# Altium footprint library PCB51.PcbLib: 22 footprints (part 1 of 2)
Each footprint in its own frame and in the unit in brackets; x right, y up, seen from the top. Pads: shape width x height; smd on the part's side, far side on the other; paste and mask are expansions set on the pad; w line width, h text height; cw(c..) or ccw(c..) is an arc to the next point about the centre after c.
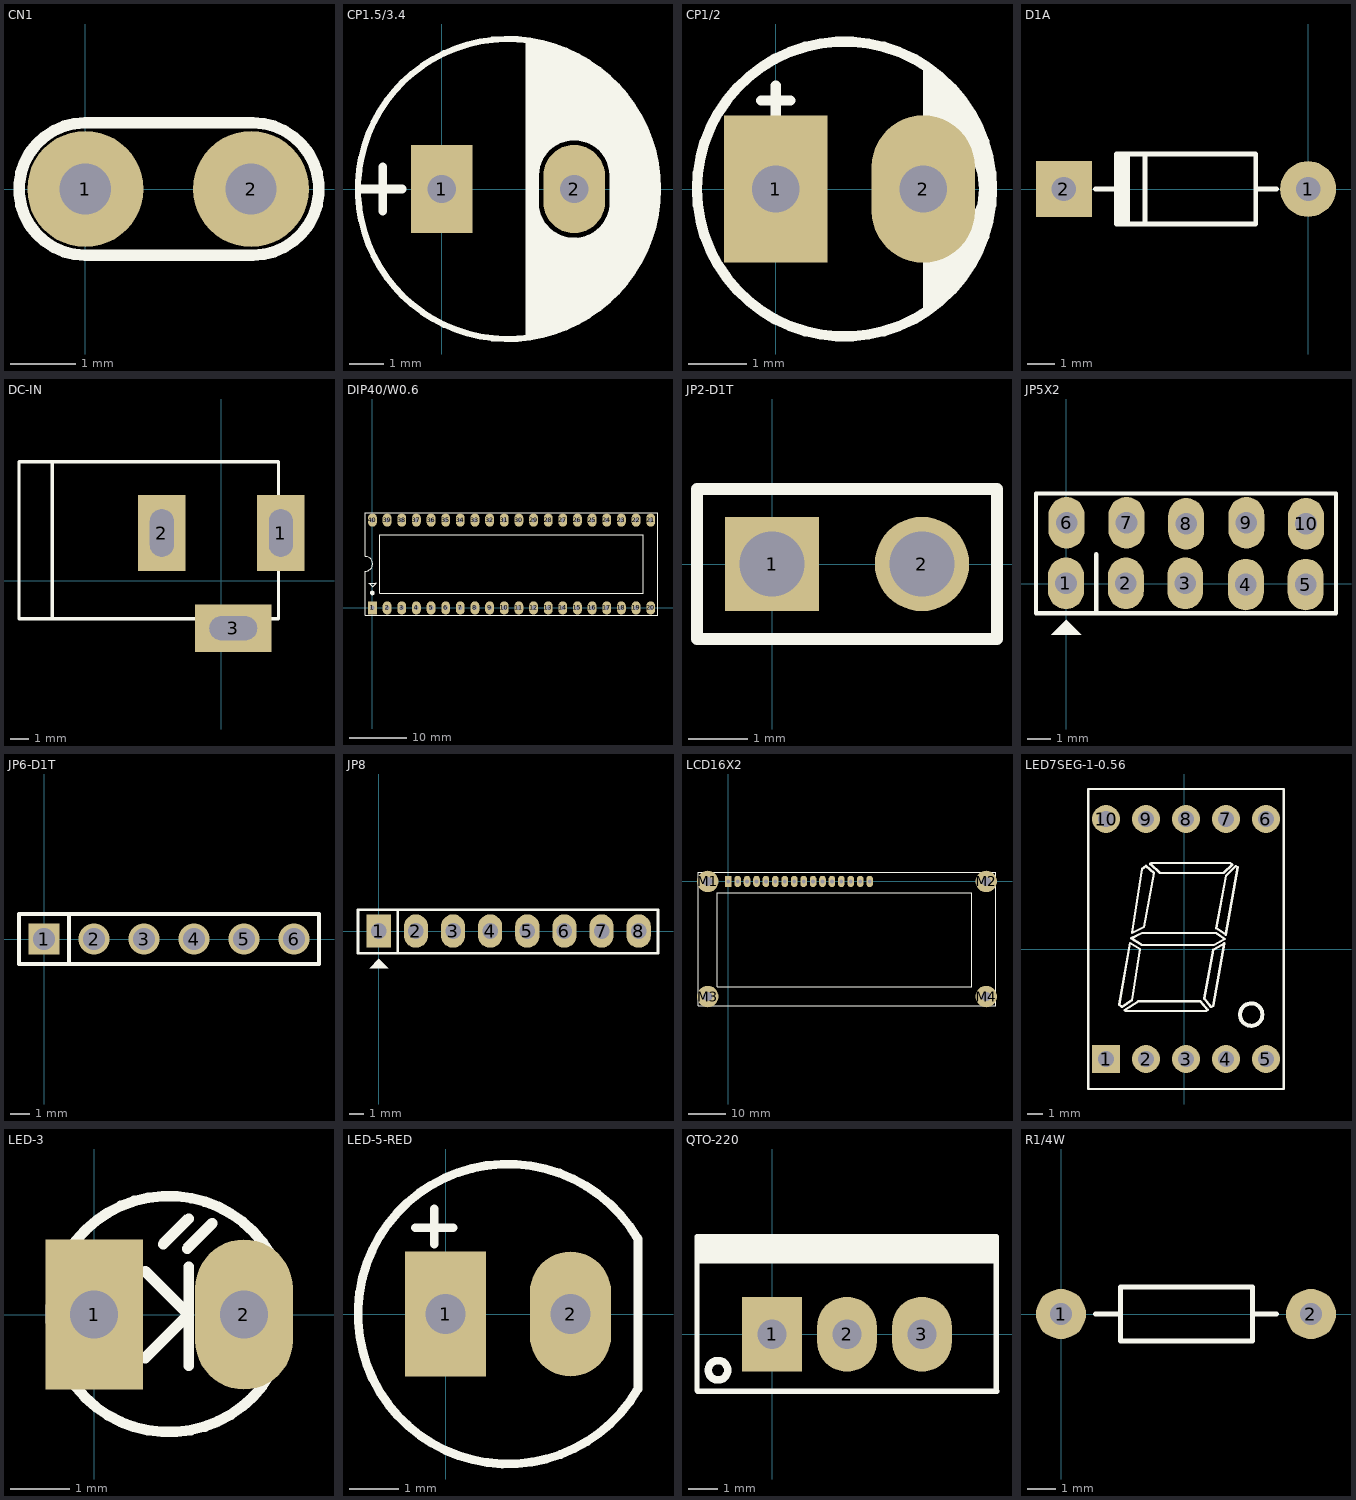
[diagram p0: the footprints below, top view; thin cyan lines are the x and y axes]

## CN1 [mil]
height 200
pads (2):
  round 70 hole 31: 1(0,0) 2(100,0)
Top Overlay:
  lines w7: 100,-40 0,-40 cw(c0,0) 0,40 100,40 ; 101,-40 ccw(c101,0) 101,40
3D body "SW3dPS-Cap 100n.STEP": height 265, standoff -46.85, extent -59.93,-30 169.93,36.79

## CP1.5/3.4 [mil] "Tu hoa 220->470uF,16V, 470uF/16V,25V"
height 300
pads (2):
  rect 70x100 hole 32: 1(0,0)
  oval 70x100 hole 32: 2(150,0)
Top Overlay:
  circle w7: c75,0 r170
  region: 100,25 135,60 162.93,60 164.6,59.92 167.88,59.26 170.98,57.98 173.76,56.12 175,55 181.46,48.54 182.26,47.66 183.57,45.69 184.48,43.5 184.94,41.18 185,40 190,35 191.12,33.76 192.98,30.98 194.26,27.88 194.92,24.6 195,22.93 195,-27.93 194.92,-29.6 194.26,-32.88 192.98,-35.98 191.12,-38.76 190,-40 178.54,-51.46 177.66,-52.26 175.69,-53.57 173.5,-54.48 171.18,-54.94 170,-55 168.76,-56.13 165.98,-57.98 162.88,-59.27 159.6,-59.92 157.93,-60 144.14,-60 140.8,-59.84 134.23,-58.53 128.05,-55.97 122.48,-52.25 120,-50 108.54,-38.54 107.74,-37.66 106.43,-35.69 105.52,-33.5 105.06,-31.18 105,-30 100,-30 100,-170 155,-150 195,-120 225,-80 245,-20 245,20 230,70 200,115 165,145 120,165 100,170
  lines w10: -90,0 -45,0 ; -67,-25 -67,25 ; 100,-165 100,165 ; 100,25 105,25 ; 105,-20 105,30 ; 105,-10 ccw(c150,-15) 145,-60 ccw(c150,-15) 195,-20 195,15 ccw(c150,15) 150,60 ccw(c150,15) 105,15
3D body "User Library-CAP 8X11_5.STEP": height 445.89, standoff -754.41, extent -84.96,-157.48 230,157.48

## CP1/2 [mil] "Tu hoa < 22uF/16>50V"
height 300
pads (2):
  rect 70x100 hole 32: 1(0,0)
  oval 70x100 hole 32: 2(100,0)
Top Overlay:
  circle w7: c46.58,0 r100
  region: 100,84 100,38 112,36 122,32 129,27 134,19 137,10 138,0 137,-10 134,-17 129,-24 123,-31 117,-35 107,-38 100,-38 100,-85 108,-78 120,-69 128,-59 137,-44 144,-19 146,9 139,40 127,60 110,79
  lines w7: -10,60 10,60 ; 0,50 0,70
3D body "User Library-Cap electro 5x7x2mm.STEP": height 287.03, standoff -138.05, extent -49.42,-99.42 149.42,99.42

## D1A [mil] "Diode 1A, W 100mil, L 350mil"
height 100
pads (2):
  round 80 hole 35: 1(0,0)
  rect 80x80 hole 35: 2(-350,0)
Top Overlay:
  rectangle: -275,-50 -255,50
  lines w7: -305,0 -275,0 ; -275,-16 -275,0 ; -275,21 -275,0 ; -234,-50 -234,47 ; -75,0 -45,0 ; -275,0 -275,50 -75,50 -75,-50 -275,-50 -275,0
3D body "SW3dPS-do_35.STEP": height 84.5, standoff -100, extent -386.49,-33 34.49,36

## DC-IN [mil] "Jac DC input"
height 200
pads (3):
  rect 100x160 hole 50 slot 100 at 90 deg: 1(125,100) 2(-125,100)
  rect 160x100 hole 50 slot 100 at 0 deg: 3(25,-100)
Top Overlay:
  lines w7: -355,-80 -355,250 ; -425,-80 -425,250 120,250 120,-80 -425,-80
3D body "SW3dPS-dc range - dc connector[4840.2201].STEP": height 433.67, standoff -137.2, extent -410.35,-105.12 134,269.12

## DIP40/W0.6 [mil] "40 PIN, W 600mil, Pin to pin 100mil"
height 100
pads (40):
  rect 60x90 hole 31: 1(0,0)
  oval 60x90 hole 31: 2(100,0) 3(200,0) 4(300,0) 5(400,0) 6(500,0) 7(600,0) 8(700,0) 9(800,0) 10(900,0) 11(1000,0) 12(1100,0) 13(1200,0) 14(1300,0) 15(1400,0) 16(1500,0) 17(1600,0) 18(1700,0) 19(1800,0) 20(1900,0) 21(1900,600) 22(1800,600) 23(1700,600) 24(1600,600) 25(1500,600) 26(1400,600) 27(1300,600) 28(1200,600) 29(1100,600) 30(1000,600) 31(900,600) 32(800,600) 33(700,600) 34(600,600) 35(500,600) 36(400,600) 37(300,600) 38(200,600) 39(100,600) 40(0,600)
Top Overlay:
  circle w15: c-1,102 r8
  lines w7: -50.38,251.05 ccw(c-48.69,301.02) -50,351 ; -50,251 -50,-50 1950,-50 1950,650 -50,650 -50,352 ; -24,170 -23,170 1,146 1,145 25,169 25,171 24,170 -24,170 ; 50,100 1850,100 1850,500 50,500 50,100
3D body "SW3dPS-DIP40-600.STEP": height 224.41, standoff -101.57, extent -82.48,-10 1982.48,599.84

## JP2-D1T [mm] "2 pins, 1 row, straight, gold plating"
height 8.54
pads (2):
  rect 1.6x1.6 hole 1.1: 1(0,0)
  round 1.6 hole 1.1: 2(2.54,0)
Top Overlay:
  lines w0.2: -1.27,-1.27 -1.27,1.27 3.81,1.27 3.81,-1.27 -1.27,-1.27
3D body "61300211121.stp": height 8.54, standoff -3, extent -1.27,-1.27 3.81,1.27

## JP5X2 [mil]
height 334.65
pads (10):
  oval 60x86 hole 36: 1(-0.5,0.5) 2(99.5,0.5) 3(198.5,0.5) 4(299.5,-1.5) 5(399.5,-1.5) 6(0.5,101.5) 7(100.5,101.5) 8(200,100) 9(300.5,101.5) 10(400,100)
Top Overlay:
  region: 0,-60 -25,-85 25,-85
  lines w7: 50,-49 50,49 ; -50.5,-49.5 450,-49.5 450,150.5 -50.5,150.5 -50.5,50.5 -50.5,-49.5
3D body "JP5X2.stp": height 335.25, standoff -117.51, extent -49.99,-49.99 450.01,150.01

## JP6-D1T [mm] "6 pins, 1 row, straight, gold plating"
height 8.54
pads (6):
  rect 1.6x1.6 hole 1.1: 1(0,0)
  round 1.6 hole 1.1: 2(2.54,0) 3(5.08,0) 4(7.62,0) 5(10.16,0) 6(12.7,0)
Top Overlay:
  lines w0.2: 1.27,-1.27 1.27,1.27 ; -1.27,-1.27 13.97,-1.27 13.97,1.27 -1.27,1.27 -1.27,-1.27
3D body "61300611121.stp": height 8.54, standoff -3, extent -1.27,-1.27 13.97,1.27

## JP8 [mil] "JP8"
height 200
pads (8):
  rect 65x90 hole 42: 1(0,0)
  oval 65x90 hole 42: 2(100,0) 3(200,0) 4(300,0) 5(400,0) 6(500,0) 7(600,0) 8(700,0)
Top Overlay:
  region: 0,-75 -25,-100 25,-100
  lines w7: 51,-60 51,56 ; -56,-60 -56,57 752,57 752,-60 -56,-60
3D body "JP1-8.stp": height 323.43, standoff -117.51, extent -48.03,-50 748.03,48.43

## LCD16X2 [mm] "LCD dipslay 16x2, 16 pin"
height 10.16
pads (20):
  rect 1.778x3.048 hole 1: 1(0,0)
  oval 1.778x3.048 hole 1: 2(2.54,0) 3(5.08,0) 4(7.62,0) 5(10.16,0) 6(12.7,0) 7(15.24,0) 8(17.78,0) 9(20.32,0) 10(22.86,0) 11(25.4,0) 12(27.94,0) 13(30.48,0) 14(33.02,0) 15(35.56,0) 16(38.1,0)
  round 5.8 / inner round 0 / far side round 0 hole 2.5 unplated: M1(-5.5,0) M2(69.5,0) M3(-5.5,-31) M4(69.5,-31)
Top Overlay:
  lines w0.2: -8,-33.5 -8,2.5 72,2.5 72,-33.5 -8,-33.5 ; -2.921,-28.423 -2.921,-3.023 65.659,-3.023 65.659,-28.423 -2.921,-28.423
3D body "socket16.stp": height 7.02, standoff -2.98, extent -1.207,-1.333 39.433,1.207
3D body "jp16.stp": height 11.89, standoff -0.51, extent -1.219,-1.321 39.321,1.179
3D body "LCD module 16 X 2 backlight.STEP": height 18.14, standoff 4.93, extent -8.128,-34.468 72.372,2.032

## LED7SEG-1-0.56 [mil]
height 334.65
pads (10):
  rect 70x70 hole 40: 1(-195,-275)
  round 70 hole 40: 2(-95,-275) 3(5,-275) 4(105,-275) 5(205,-275) 6(205,325) 7(105,325) 8(5,325) 9(-95,325) 10(-195,325)
Top Overlay:
  circle w10: c168,-164 r28.02
  lines w6: -140,-155 -119,-155 ; -116,-155 -143,-155 -145,-155 ; -74,215 102,215 115,215 121,211 99,190 78,190 ; -72,215 -82,215 -85,213 -84,212 -60,190 80,190 ; -155,-145 -130,-128 ; -155,-145 -162,-139 -135,15 -110,0 -130,-128 ; -155,-145 -130,-128 ; -145,-155 -95,-155 55,-155 59,-152 41,-131 -114,-131 -148,-153 -145,-155 ; -239,-350 249,-350 249,400 -239,400 -239,-350 ; -132,27 -105,40 80,40 102,25 75,10 -105,10 -132,27 ; -130,40 -100,55 -75,190 -95,208 -105,200 -130,40 ; 51,-124 73,-2 77,0 101,14 73,-142 68,-145 51,-124 ; 81,52 105,183 129,207 134,205 104,36 81,52
3D body "27763.stp": height 314.96, standoff -137.8, extent -241.06,-349.01 251.07,399.02

## LED-3 [mil] "LED 2 PIN, 3ly Only colour"
height 300
pads (2):
  rect 65x100 hole 32: 1(0,0)
  oval 65x100 hole 32: 2(100,0)
Top Overlay:
  lines w7: 34,-29 63,0 34,29 ; 46,47 63,64 ; 62,44 79,61 ; 63,-34 63,32 ; 117.92,-39.35 117.92,39.84
  lines w7.01: 117.57,-39.74 cw(c49.8,0.35) 117.72,40.19
3D body "SW3DPS-LED DIP 3MM-DEFAULT.STEP": height 217.14, standoff -117.51, extent -24.8,-74.81 112.99,74.8

## LED-5-RED [mil] "LED 2 PIN, 5 ly , Only colour,pin to pin 100mil"
height 300
pads (2):
  rect 65x100 hole 32: 1(0,0)
  oval 65x100 hole 32: 2(100,0)
Top Overlay:
  lines w7: -24,69 6,69 ; -9,56 -9,84 ; 153.51,60.71 ccw(c50,0) 153.94,-59.97 ; 154,-59 154,60
3D body "SW3dPS-LEDd5R.STEP": height 339.18, standoff -243.49, extent -64.69,-119 148.69,117.99

## QTO-220 [mil] "TO-220 - 1-2-3"
height 200
pads (3):
  rect 80x100 hole 39: 1(0,0)
  oval 80x100 hole 39: 2(100,0) 3(200,0)
Top Overlay:
  circle w10: c-72.03,-48 r12.97
  rectangle: -99,94 300,130
  lines w7: 298,107 299,93 ; -100,-75 -100,130 299,130 299,-75 300,-76 -76,-76 -99,-76 -100,-75
3D body "SW3dPS-TO220AB.STEP": height 754.72, standoff -400, extent -119,-64 322.46,120.65

## R1/4W [mil] "R 1/4W, 2 Pin, 350mil"
height 100
pads (2):
  round 70 hole 31: 1(0,0) 2(350,0)
Top Overlay:
  lines w7: 48,0 83,0 ; 268,0 302,0 ; 83,-38 268,-38 268,38 83,38 83,-38
3D body "SW3dPS-AXIAL_RESISTOR(0.25W).STEP": height 111.42, standoff -50, extent -39.6,-47 385.6,47.49